# EAGLE library part DRV8830 (library FaBo-Motor)
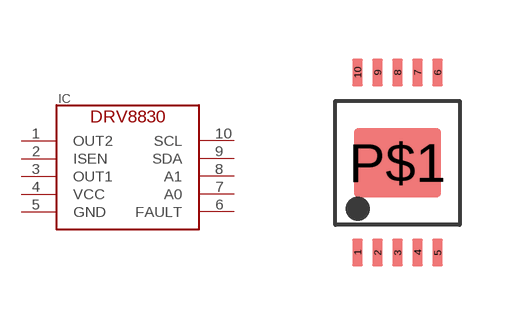
[diagram p1: symbol with the pads of DRV8830; footprint DRV8830]

Designator prefix IC

## DRV8830  [DRV8830]
1  OUT2
2  ISEN
3  OUT1
4  VCC
5  GND
6  FAULT
7  A0
8  A1
9  SDA
10  SCL

## Footprint DRV8830 (pad centres in mm)
smd 0.27 x 0.7: 1 -1,-2.24; 2 -0.5,-2.24; 3 0,-2.24; 4 0.5,-2.24; 5 1,-2.24; 6 1,2.26; 7 0.5,2.26; 8 0,2.26; 9 -0.5,2.26; 10 -1,2.26
smd 2.18 x 1.72: P$1 0,0